# Altium footprint library AL-12VDC-A12-S20R_VTN.PcbLib: 1 footprints
Each footprint in its own frame and in the unit in brackets; x right, y up, seen from the top. Pads: shape width x height; smd on the part's side, far side on the other; paste and mask are expansions set on the pad; w line width, h text height; cw(c..) or ccw(c..) is an arc to the next point about the centre after c.
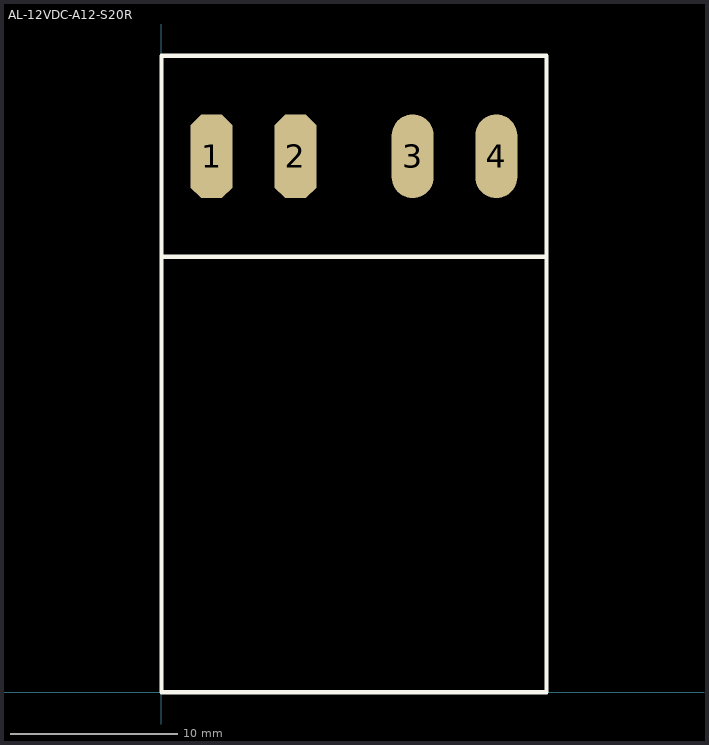
[diagram p0: the footprint, top view; thin cyan lines are the x and y axes]

## AL-12VDC-A12-S20R [mm]
pads (4):
  oct 2.5x5 smd: 1(3,32) 2(8,32)
  oval 2.5x5 smd: 3(15,32) 4(20,32)
Top Overlay:
  lines w0.254: 0,26 23,26 ; 0,0 23,0 23,38 0,38 0,0